# Altium footprint library Molex 7-pin.PcbLib: 1 footprints
Each footprint in its own frame and in the unit in brackets; x right, y up, seen from the top. Pads: shape width x height; smd on the part's side, far side on the other; paste and mask are expansions set on the pad; w line width, h text height; cw(c..) or ccw(c..) is an arc to the next point about the centre after c.
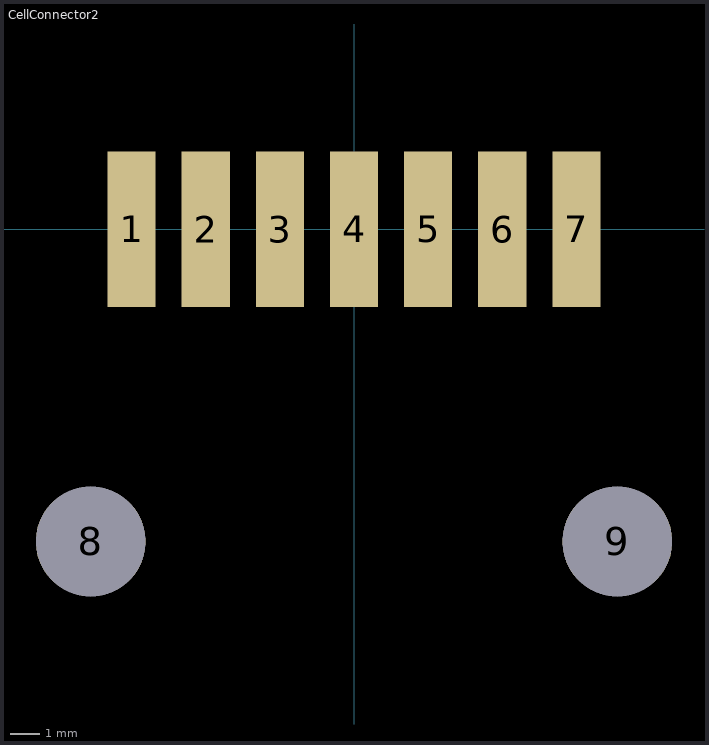
[diagram p0: the footprint, top view; thin cyan lines are the x and y axes]

## CellConnector2 [mm]
pads (9):
  rect 1.65x5.33 smd: 1(-7.62,0) 2(-5.08,0) 3(-2.54,0) 4(0,0) 5(2.54,0) 6(5.08,0) 7(7.62,0)
  round 3.76 hole 3.76: 8(-9.02,-10.69) 9(9.02,-10.69)
3D body "Assem1.STEP": height 7.72, standoff -2.13, extent -10.795,-21.336 10.795,1.831